# EAGLE library part P82B715 (library philips_I2C_repeaters-hubs-expanders)
I2C bus extender The 82B715 bipolar integrated circuit contains two identical buffer circuits which enable I2C and similar bus systems to be extended over long distances without degradation of system performance or requiring the use of special cables. The buffer has an effective current gain of ten from I2C bus to Buffered bus. Whatever current is flowing out of the I2C bus side, ten times that current will be flowing into the Buffered bus side (see Figure 2). As a consequence of this amplification the system is able to drive capacitive loads up to ten times the standard limit on the Buffered bus side. This current based buffering approach preserves the bi-directional, open-collector/open-drain characteristic of the I2C SDA/SCL lines.
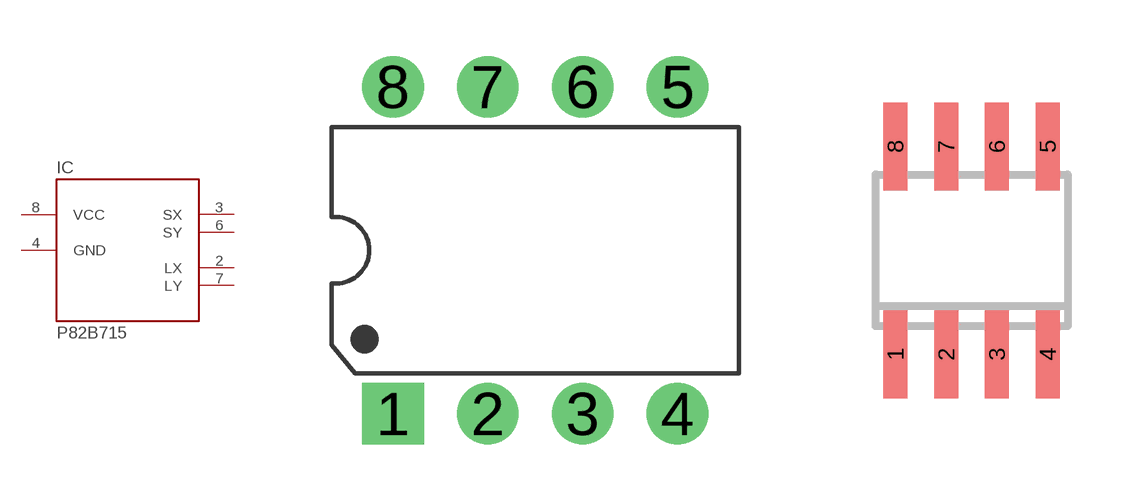
[diagram p5: symbol with the pads of DIP8; footprints DIP8, SO8]

Designator prefix IC

## P82B715PN  [DIP8]
2  LX
3  SX
4  GND  pwr
6  SY
7  LY
8  VCC  pwr

## P82B715TD  [SO8]
Pads as for DIP8

## Footprint DIP8 (pad centres in mm)
drill 0.889 pad 1.651 square: 1 -3.81,-4.381
drill 0.889 pad 1.651: 2 -1.27,-4.381; 3 1.27,-4.381; 4 3.81,-4.381; 5 3.81,4.381; 6 1.27,4.381; 7 -1.27,4.381; 8 -3.81,4.381

## Footprint SO8 (pad centres in mm)
SMALL OUTLINE INTEGRATED CIRCUIT
smd 0.6 x 2.2: 1 -1.905,-2.6; 2 -0.635,-2.6; 3 0.635,-2.6; 4 1.905,-2.6; 5 1.905,2.6; 6 0.635,2.6; 7 -0.635,2.6; 8 -1.905,2.6